# EAGLE library part ICS307 (library ICS307)
IDT ICS307M-02ILF, PLL Clock Synthesizer, 6 → 200 MHz, 16-Pin SOIC <http://nl.rs-online.com/web/p/pll-frequency-synthesizers/7144983/>
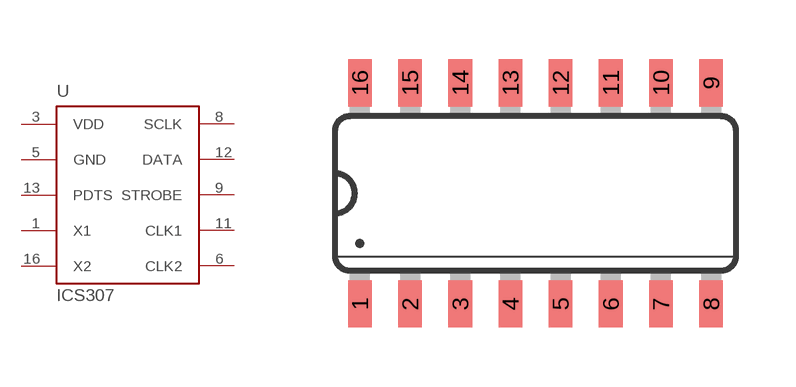
[diagram p0: symbol with the pads of SO16; footprint SO16]

Designator prefix -

## ICS307  [SO16]
1  X1  in
3  VDD  pwr
5  GND  pwr
6  CLK2  out
8  SCLK  in
9  STROBE  in
11  CLK1  out
12  DATA  in
13  PDTS
16  X2  in

## Footprint SO16 (pad centres in mm)
Small Outline package 150 mil
smd 0.6 x 1.2: 1 -4.445,-2.8; 2 -3.175,-2.8; 3 -1.905,-2.8; 4 -0.635,-2.8; 5 0.635,-2.8; 6 1.905,-2.8; 7 3.175,-2.8; 8 4.445,-2.8; 9 4.445,2.8; 10 3.175,2.8; 11 1.905,2.8; 12 0.635,2.8; 13 -0.635,2.8; 14 -1.905,2.8; 15 -3.175,2.8; 16 -4.445,2.8